# Altium footprint library 电位器.PcbLib: 35 footprints (part 1 of 3)
Each footprint in its own frame and in the unit in brackets; x right, y up, seen from the top. Pads: shape width x height; smd on the part's side, far side on the other; paste and mask are expansions set on the pad; w line width, h text height; cw(c..) or ccw(c..) is an arc to the next point about the centre after c.
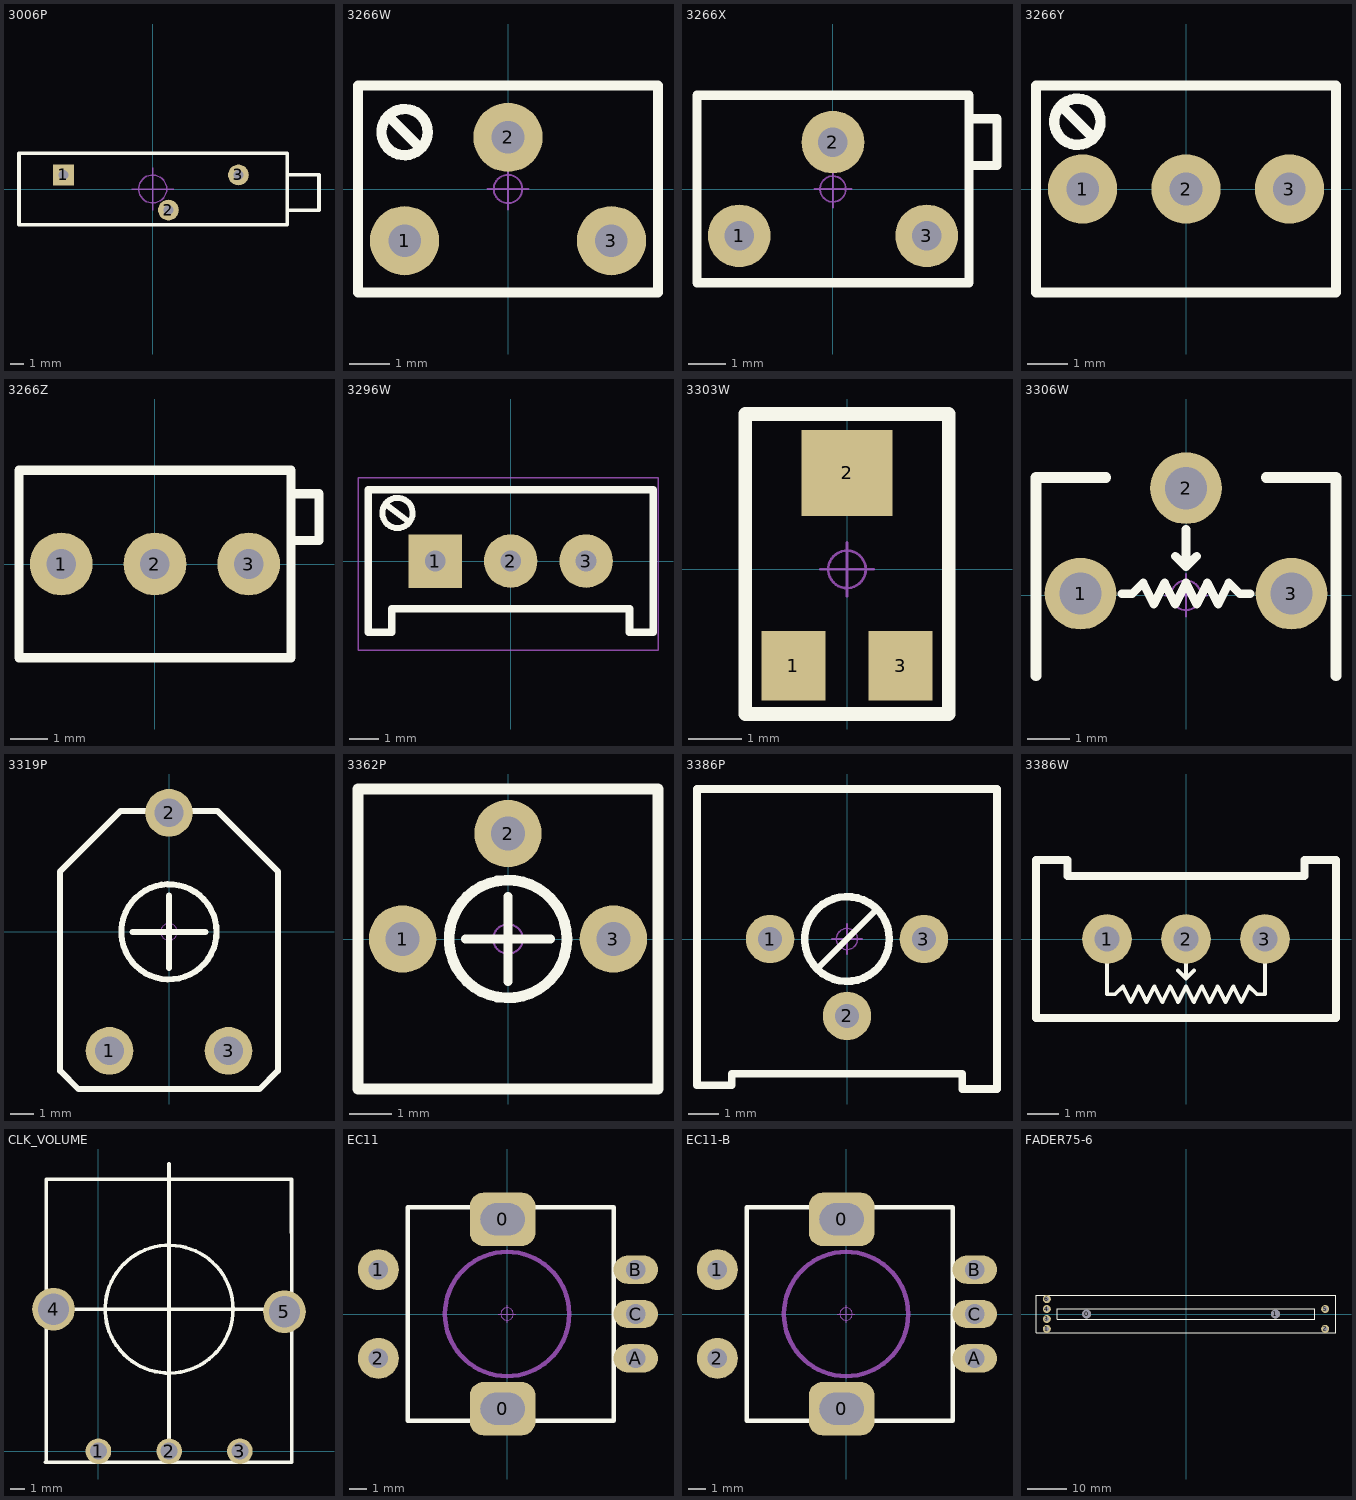
[diagram p0: the footprints below, top view; thin cyan lines are the x and y axes]

## 3006P [mm] "19.05mm*4.83mm*6.35mm(长*宽*高）"
pads (3):
  rect 1.5x1.5 hole 0.7: 1(-6.477,1.016)
  round 1.5 hole 0.7: 2(1.143,-1.524) 3(6.223,1.016)
Top Overlay:
  lines w0.254: 9.754,-1.524 12.065,-1.524 12.065,1.016 9.779,1.016 ; -9.703,-2.591 -9.703,2.591 9.754,2.591 9.754,-2.591 -9.703,-2.591
Mechanical 15:
  circle w0.1: c0,0 r1.016
  lines w0.1: -1.524,0 1.524,0 ; 0,-1.524 0,1.524
3D body "3006P.STEP": height 6.4, standoff -3.45, extent -9.525,-2.415 11.885,2.415

## 3266W [mm] "长：7mm，宽：4.8mm，高：7.5mm"
pads (3):
  round 1.7 hole 0.8: 1(-2.54,-1.27) 2(0,1.27) 3(2.54,-1.27)
Top Overlay:
  circle w0.254: c-2.54,1.397 r0.568
  lines w0.25: -2.921,1.778 -2.159,1.016 ; -3.683,-2.54 3.683,-2.54 3.683,-1.143 3.683,2.54 -3.683,2.54 -3.683,-2.54
Mechanical 15:
  circle w0.05: c0,0 r0.35
  lines w0.05: -0.5,0 0.5,0 ; 0,-0.5 0,0.5
3D body "3266W.STEP": height 8.03, standoff -3.57, extent -3.5,-2.4 3.5,2.4

## 3266X [mm] "长：7mm，宽：4.8mm，高：7.5mm"
pads (3):
  round 1.7 hole 0.8: 1(-2.54,-1.27) 2(0,1.27) 3(2.54,-1.27)
Top Overlay:
  lines w0.25: 3.683,0.635 4.445,0.635 4.445,1.905 3.683,1.905 ; -3.683,-2.54 3.683,-2.54 3.683,-1.143 3.683,2.54 -3.683,2.54 -3.683,-2.54
Mechanical 15:
  circle w0.05: c0,0 r0.35
  lines w0.05: -0.5,0 0.5,0 ; 0,-0.5 0,0.5
3D body "3266X.STEP": height 7.02, standoff -3.57, extent -3.5,-2.4 4.5,2.4

## 3266Y [mm] "长：7mm，宽：4.8mm，高：7.5mm"
pads (3):
  round 1.7 hole 0.8: 1(-2.54,0) 2(0,0) 3(2.54,0)
Top Overlay:
  circle w0.254: c-2.667,1.651 r0.568
  lines w0.25: -3.048,2.032 -2.286,1.27 ; -3.683,-2.54 -3.683,2.54 3.683,2.54 3.683,-1.143 3.683,-2.54 -3.683,-2.54
Mechanical 15:
  circle w0.05: c0,0 r0.35
  lines w0.05: -0.5,0 0.5,0 ; 0,-0.5 0,0.5
3D body "3266Y.STEP": height 8.03, standoff -3.57, extent -3.5,-2.4 3.5,2.4

## 3266Z [mm] "长：7mm，宽：4.8mm，高：7.5mm"
pads (3):
  round 1.7 hole 0.8: 1(-2.54,0) 2(0,0) 3(2.54,0)
Top Overlay:
  lines w0.25: 3.683,0.635 4.445,0.635 4.445,1.905 3.683,1.905 ; -3.683,-2.54 3.683,-2.54 3.683,-1.143 3.683,2.54 -3.683,2.54 -3.683,-2.54
Mechanical 15:
  circle w0.05: c0,0 r0.35
  lines w0.05: -0.5,0 0.5,0 ; 0,-0.5 0,0.5
3D body "3266Z.STEP": height 7.02, standoff -3.57, extent -3.5,-2.4 4.5,2.4

## 3296W [mm] "Precise Multi-Winding Adjustable Resistor"
pads (3):
  rect 1.8x1.8 hole 0.7: 1(-2.54,0)
  round 1.8 hole 0.7: 2(0,0) 3(2.54,0)
Top Overlay:
  lines w0.2: -3.302,1.651 ccw(c-3.81,1.618) -3.301,1.608
  lines w0.203: -4.2,1.9 -3.464,1.348
  lines w0.254: -4.8,-2.4 -4.8,2.4 4.8,2.4 4.8,-2.4 4,-2.4 4,-1.6 -4,-1.6 -4,-2.4 -4.8,-2.4
Mechanical 15:
  lines w0.05: -5.14,-3 4.96,-3 4.96,2.8 -5.14,2.8 -5.14,-3
3D body "3296.STEP": height 11.52, standoff -3.48, extent -4.75,-2.4 4.75,2.4

## 3303W [mm] "3.5*3.1*1.5mm"
pads (3):
  rect 1.2x1.3 smd: 1(-1,-1.8) 3(1,-1.8)
  rect 1.7x1.6 smd: 2(0,1.8)
Top Overlay:
  lines w0.254: -1.9,-2.7 1.9,-2.7 1.9,2.9 -1.9,2.9 -1.9,-2.7
Mechanical 15:
  circle w0.05: c0,0 r0.35
  lines w0.05: -0.5,0 0.5,0 ; 0,-0.5 0,0.5
3D body "3303W.STEP": height 1.45, standoff -0.01, extent -1.55,-2.055 1.55,2.05

## 3306W [mm]
pads (3):
  round 1.7 hole 1: 1(-2.5,0.04) 2(0,2.54) 3(2.5,0.04)
Top Overlay:
  lines w0.203: -1.524,0.04 -1.27,0.04 -1.016,0.294 -0.762,-0.214 -0.508,0.294 -0.254,-0.214 0,0.294 0.254,-0.214 0.508,0.294 0.762,-0.214 1.016,0.294 1.27,0.04 1.524,0.04 ; -0.254,0.929 0,0.675 ; 0,1.564 0,0.675 ; 0.254,0.929 0,0.675
  lines w0.254: -3.556,-1.905 -3.556,2.794 -1.905,2.794 ; 1.905,2.794 3.556,2.794 3.556,-1.905
Mechanical 15:
  circle w0.05: c0,0 r0.35
  lines w0.05: -0.5,0 0.5,0 ; 0,-0.5 0,0.5
3D body "POT-3306W.STEP": height 8.6, standoff -1.71, extent -3.405,-1.96 3.405,2.69

## 3319P [mm]
pads (3):
  round 2 hole 1.2: 1(-2.5,-5) 2(0,5) 3(2.5,-5)
Top Overlay:
  circle w0.254: c0,0 r2
  lines w0.254: -1.524,0 1.524,0 ; 0,-1.524 0,1.524 ; -4.572,-5.842 -3.81,-6.604 3.81,-6.604 4.572,-5.842 4.572,-4.064 4.572,2.54 2.032,5.08 -2.032,5.08 -4.572,2.54 -4.572,-5.08 -4.572,-5.842
Mechanical 15:
  circle w0.05: c0,0 r0.35
  lines w0.05: -0.5,0 0.5,0 ; 0,-0.5 0,0.5
3D body "RES3319.STEP": height 6.55, standoff -3.8, extent -4.5,-6.512 4.5,5.39

## 3362P [mm]
pads (3):
  round 1.6 hole 0.8: 1(-2.5,0) 2(0,2.5) 3(2.5,0)
Top Overlay:
  circle w0.254: c0,0 r1.397
  lines w0.203: -1.016,0 1.016,0 ; 0,-1.016 0,1.016
  lines w0.254: -3.556,-3.556 3.556,-3.556 3.556,3.556 -3.556,3.556 -3.556,-3.556
Mechanical 15:
  circle w0.05: c0,0 r0.35
  lines w0.05: -0.5,0 0.5,0 ; 0,-0.5 0,0.5
3D body "3362P.STEP": height 4.74, standoff -2.65, extent -3.3,-3.3 3.3,3.3

## 3386P [mm]
pads (3):
  round 1.6 hole 0.8: 1(-2.54,0) 2(0,-2.54) 3(2.54,0)
Top Overlay:
  circle w0.254: c0,0 r1.397
  lines w0.203: -0.889,-0.889 0.889,0.889
  lines w0.254: -4.953,-4.826 -4.953,4.953 4.953,4.953 4.953,3.302 4.953,-4.826 4.953,-4.953 3.81,-4.953 3.81,-4.445 -3.81,-4.445 -3.81,-4.826 -4.445,-4.826 -4.953,-4.826
Mechanical 15:
  circle w0.05: c0,0 r0.35
  lines w0.05: -0.5,0 0.5,0 ; 0,-0.5 0,0.5
3D body "3386P.STEP": height 5.02, standoff -5.49, extent -4.8,-4.774 4.8,4.826

## 3386W [mm]
pads (3):
  round 1.6 hole 0.8: 1(-2.54,0) 2(0,0) 3(2.54,0)
Top Overlay:
  lines w0.127: -2.54,-0.762 -2.54,-1.778 -2.286,-1.778 -2.032,-1.524 -1.778,-2.032 -1.524,-1.524 -1.27,-2.032 -1.016,-1.524 -0.762,-2.032 -0.508,-1.524 -0.254,-2.032 0,-1.524 0.254,-2.032 0.508,-1.524 0.762,-2.032 1.016,-1.524 1.27,-2.032 1.524,-1.524 1.778,-2.032 2.032,-1.524 2.286,-1.778 2.54,-1.778 2.54,-0.762 ; -0.254,-1.016 0,-1.27 ; 0,-0.762 0,-1.27 ; 0.254,-1.016 0,-1.27
  lines w0.254: -4.826,-2.54 -4.826,2.54 -3.81,2.54 -3.81,2.032 3.81,2.032 3.81,2.54 4.826,2.54 4.826,-2.54 -4.826,-2.54
3D body "CERMET TRIMMER SINGLE TURN 10MM 500MW SIDE ADJUST 3386W.step": height 9.53, standoff -5, extent -4.765,-2.392 4.765,2.438

## CLK_VOLUME [mm]
pads (5):
  round 1.8 hole 1.2: 1(0,0) 2(4.98,0) 3(9.96,0)
  round 3 hole 2.2: 4(-3.159,10) 5(13.097,9.824)
Top Overlay:
  circle w0.254: c4.976,10 r4.5
  lines w0.254: -3.756,-0.763 13.516,-0.763 ; -3.679,19.142 -3.667,-0.769 ; -3.672,19.144 13.6,19.144 ; -3.159,10 13.104,10 ; 4.969,0.924 4.969,20.221 ; 13.593,19.142 13.605,11.524 13.619,-0.769
3D body "SW3dPS-Encoder.STEP": height 32, standoff -3, extent -4.047,-1.727 13.953,19.273

## EC11 [mm] "数字开关编码器"
pads (7):
  rrect50% 3.7x3 hole 1.8 slot 2.5 at 0 deg: 0(-0.254,-5.334) 0(-0.254,5.334)
  round 2.3 hole 1.1: 1(-7.25,2.5) 2(-7.25,-2.5)
  oval 2.5x1.6 hole 1.1: A(7.25,-2.5) B(7.25,2.5) C(7.25,0)
Top Overlay:
  lines w0.254: -5.588,-6 6,-6 6,6 -5.588,6 -5.588,-6
Mechanical 15:
  circle w0.05: c0,0 r0.35
  circle w0.254: c0,0 r3.5
  lines w0.05: -0.5,0 0.5,0 ; 0,-0.5 0,0.5
3D body "CE11.STEP": height 22, standoff -3.5, extent -7.35,-6.237 7.45,6.237

## EC11-B [mm] "数字开关编码器"
pads (7):
  rrect50% 3.7x3 hole 1.8 slot 2.5 at 0 deg: 0(-0.254,-5.334) 0(-0.254,5.334)
  round 2.3 hole 1.1: 1(-7.25,2.5) 2(-7.25,-2.5)
  oval 2.5x1.6 hole 1.1: A(7.25,-2.5) B(7.25,2.5) C(7.25,0)
Top Overlay:
  lines w0.254: -5.588,-6 6,-6 6,6 -5.588,6 -5.588,-6
Mechanical 15:
  circle w0.05: c0,0 r0.35
  circle w0.254: c0,0 r3.5
  lines w0.05: -0.5,0 0.5,0 ; 0,-0.5 0,0.5
3D body "EC11-B.STEP": height 22, standoff -3.5, extent -7.404,-6.237 7.396,6.237

## FADER75-6 [mm] "直线电位器，长75mm"
pads (8):
  round 2.2 hole 2.2: 0(-25,0) 1(22.5,0)
  round 2 hole 1.2: 1(-35,-3.75) 2(35,-3.75) 3(-35,-1.25) 4(-35,1.25) 5(35,1.25) 6(-35,3.75)
Top Overlay:
  lines w0.254: -37.719,-4.699 37.719,-4.699 37.719,4.699 -37.719,4.699 -37.719,-4.699 ; -32.385,-1.27 32.385,-1.27 32.385,1.27 -32.385,1.27 -32.385,-1.27
3D body "FADER75-6.STEP": height 22.05, standoff -3.45, extent -37.5,-4.5 37.5,4.5